# Altium footprint library STN061050BL40.PcbLib: 1 footprints
Each footprint in its own frame and in the unit in brackets; x right, y up, seen from the top. Pads: shape width x height; smd on the part's side, far side on the other; paste and mask are expansions set on the pad; w line width, h text height; cw(c..) or ccw(c..) is an arc to the next point about the centre after c.
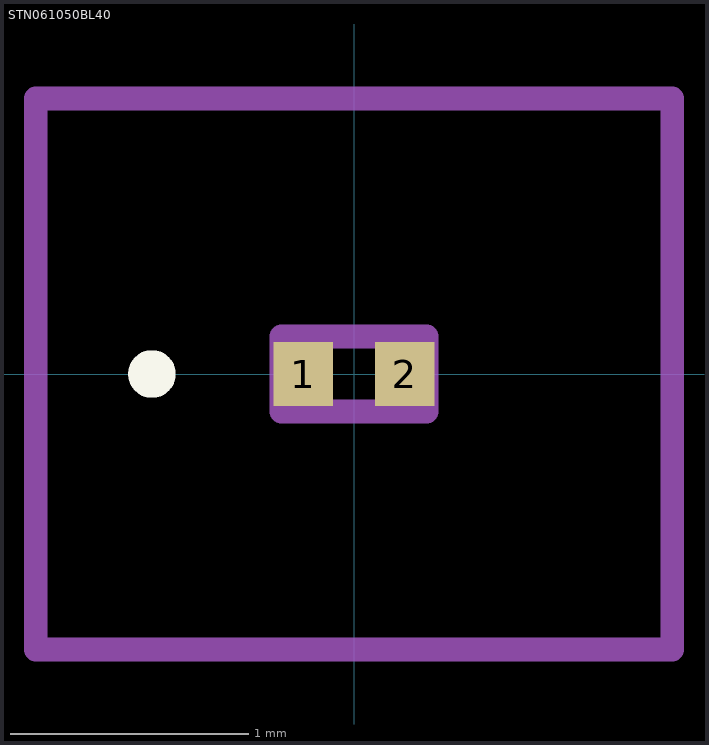
[diagram p0: the footprint, top view; thin cyan lines are the x and y axes]

## STN061050BL40 [mm]
pads (2):
  rect 0.25x0.27 smd: 1(-0.213,0) 2(0.212,0)
Top Overlay:
  lines w0.1: -0.9,0 cw(c-0.85,0) -0.8,0 ; -0.9,0 -0.9,0 ; -0.9,0 ccw(c-0.85,0) -0.8,0 ; -0.8,0 -0.8,0
Mechanical 15:
  lines w0.1: -0.305,-0.158 0.305,-0.158 0.305,0.158 -0.305,0.158 -0.305,-0.158
Mechanical 20:
  lines w0.1: -1.338,-1.158 1.337,-1.158 1.337,1.158 -1.338,1.158 -1.338,-1.158